# Altium footprint library XFCN T44001.PcbLib: 1 footprints
Each footprint in its own frame and in the unit in brackets; x right, y up, seen from the top. Pads: shape width x height; smd on the part's side, far side on the other; paste and mask are expansions set on the pad; w line width, h text height; cw(c..) or ccw(c..) is an arc to the next point about the centre after c.
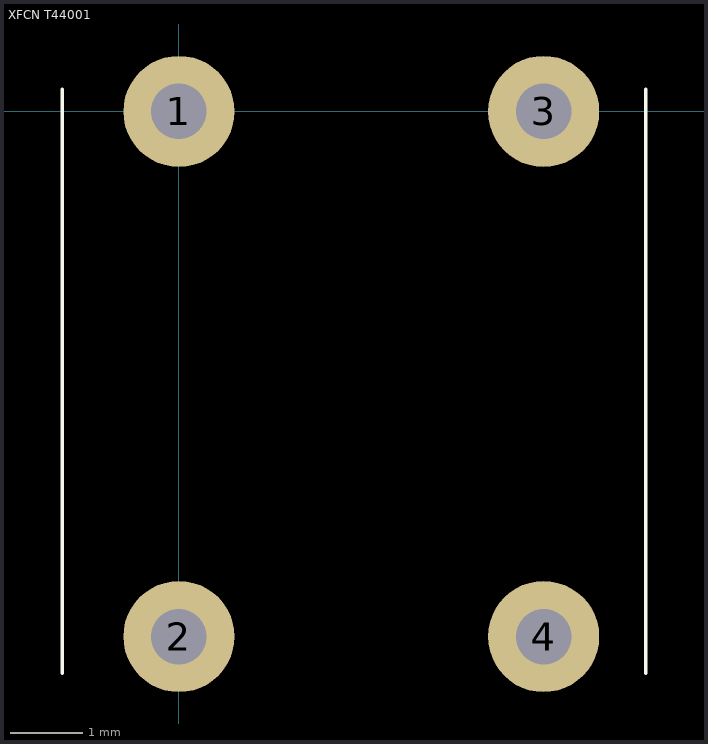
[diagram p0: the footprint, top view; thin cyan lines are the x and y axes]

## XFCN T44001 [mil]
pads (4):
  round 60 hole 30: 1(0,0) 2(0,-283.46) 3(196.85,0) 4(196.85,-283.46)
Top Overlay:
  lines w1.97: -62.99,-303.15 -62.99,11.81 ; 251.97,-303.15 251.97,11.81